# Altium footprint library Sensors.PcbLib: 1 footprints
Each footprint in its own frame and in the unit in brackets; x right, y up, seen from the top. Pads: shape width x height; smd on the part's side, far side on the other; paste and mask are expansions set on the pad; w line width, h text height; cw(c..) or ccw(c..) is an arc to the next point about the centre after c.
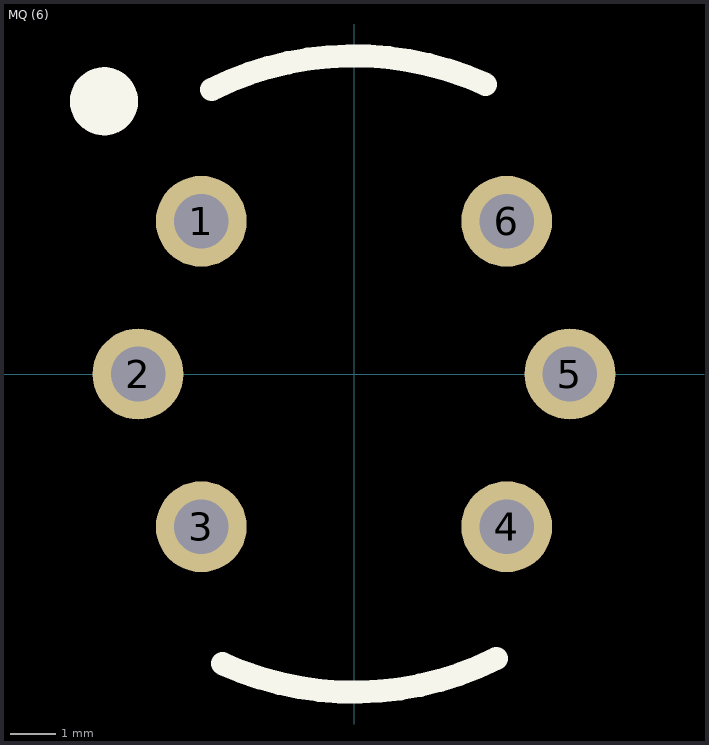
[diagram p0: the footprint, top view; thin cyan lines are the x and y axes]

## MQ (6) [mm]
pads (6):
  round 2 hole 1.2: 1(-3.36,3.36) 2(-4.75,0) 3(-3.36,-3.36) 4(3.36,-3.36) 5(4.75,0) 6(3.36,3.36)
Top Overlay:
  circle w0.8: c-5.5,6 r0.35
  lines w0.508: -3.13,6.261 cw(c0,0) 2.897,6.373 ; -2.897,-6.373 ccw(c0,0) 3.13,-6.261
3D body "MQ(6).stp": height 15, standoff -6.5, extent -7.997,-7.988 7.997,8